# Altium schematic symbol library LIFCL-17-7SG72C.SchLib: 2 symbols
Pins are listed as number, name and electrical type; pins without a type are passive.

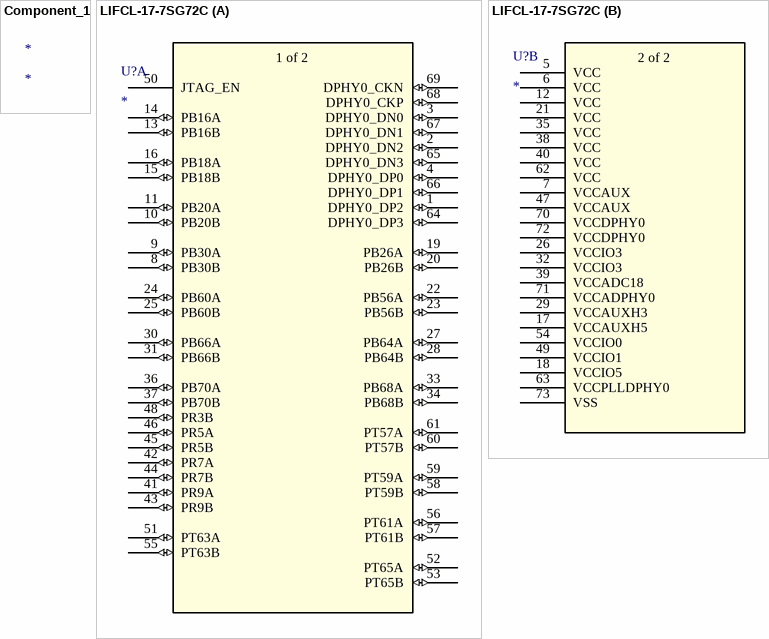
[diagram p0: symbols Component_1 to LIFCL-17-7SG72C]

## Component_1
designator *

## LIFCL-17-7SG72C
designator U?
No Description Available; Mfr_Name: Lattice; RefDes: RefDes; Type: Type
footprint QFN72_OPT1_LAT
part A pins: 1 DPHY0_DP2 (io), 2 DPHY0_DN2 (io), 3 DPHY0_DN0 (io), 4 DPHY0_DP0 (io), 8 PB30B (io), 9 PB30A (io), 10 PB20B (io), 11 PB20A (io), 13 PB16B (io), 14 PB16A (io), 15 PB18B (io), 16 PB18A (io), 19 PB26A (io), 20 PB26B (io), 22 PB56A (io), 23 PB56B (io), 24 PB60A (io), 25 PB60B (io), 27 PB64A (io), 28 PB64B (io), 30 PB66A (io), 31 PB66B (io), 33 PB68A (io), 34 PB68B (io), 36 PB70A (io), 37 PB70B (io), 41 PR9A (io), 42 PR7A (io), 43 PR9B (io), 44 PR7B (io), 45 PR5B (io), 46 PR5A (io), 48 PR3B (io), 50 JTAG_EN, 51 PT63A (io), 52 PT65A (io), 53 PT65B (io), 55 PT63B (io), 56 PT61A (io), 57 PT61B (io), 58 PT59B (io), 59 PT59A (io), 60 PT57B (io), 61 PT57A (io), 64 DPHY0_DP3 (io), 65 DPHY0_DN3 (io), 66 DPHY0_DP1 (io), 67 DPHY0_DN1 (io), 68 DPHY0_CKP (io), 69 DPHY0_CKN (io)
part B pins: 5 VCC (power), 6 VCC (power), 7 VCCAUX (power), 12 VCC (power), 17 VCCAUXH5 (power), 18 VCCIO5 (power), 21 VCC (power), 26 VCCIO3 (power), 29 VCCAUXH3 (power), 32 VCCIO3 (power), 35 VCC (power), 38 VCC (power), 39 VCCADC18 (power), 40 VCC (power), 47 VCCAUX (power), 49 VCCIO1 (power), 54 VCCIO0 (power), 62 VCC (power), 63 VCCPLLDPHY0 (power), 70 VCCDPHY0 (power), 71 VCCADPHY0 (power), 72 VCCDPHY0 (power), 73 VSS (power)
part A text: 1 of 2
part B text: 2 of 2